# EAGLE library part EL7232CSZ (library Intersil_By_element14_Batch_1)
Dual Channel, High Speed, High Current Dual Channel, High Speed, High Current
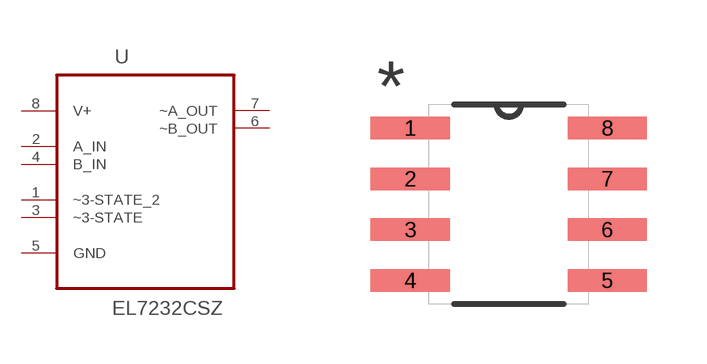
[diagram p76: symbol with the pads of SOIC127P600X175-8N; footprint SOIC127P600X175-8N]

Designator prefix U

## EL7232CSZ (MPN: EL7232CSZ; OC_FARNELL: 1562013; OC_NEWARK: 57K3554; PACKAGE: SOIC-8; SUPPLIER: INTERSIL)  [SOIC127P600X175-8N]
1  ~3-STATE_2  in
2  A_IN  in
3  ~3-STATE  in
4  B_IN  in
5  GND  pas
6  ~B_OUT  out
7  ~A_OUT  out
8  V+  pwr

## Footprint SOIC127P600X175-8N (pad centres in mm)
smd 1.981 x 0.559: 1 -2.464,1.905; 2 -2.464,0.635; 3 -2.464,-0.635; 4 -2.464,-1.905; 5 2.464,-1.905; 6 2.464,-0.635; 7 2.464,0.635; 8 2.464,1.905